# EAGLE library part MMDT2227-7-F (library MMDT2227-7-F)
Bipolar Transistors - BJT 40 / 60V 200mW COMPLEMENTARY NPN / PNP SMALL SIGNAL SURFACE MOUNT TRANSISTOR Source: Datasheet <https://www.diodes.com//assets/Datasheets/MMDT2227.pdf>
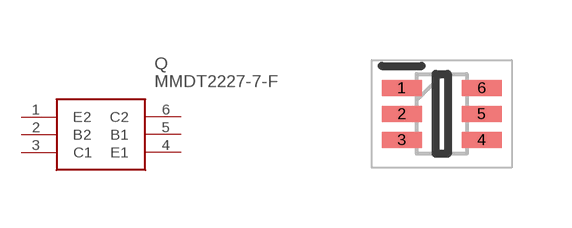
[diagram p0: symbol with the pads of SOT65P210X110-6N; footprint SOT65P210X110-6N]

Designator prefix Q

## MMDT2227-7-F (Description: Bipolar Transistors - BJT 40 / 60V 200mW COMPLEMENTARY NPN / PNP SMALL SIGNAL SURFACE MOUNT TRANSISTOR; Height: 1.1mm; Manufacturer_Name: Diodes Incorporated; Manufacturer_Part_Number: MMDT2227-7-F; Mouser_Part_Number: 621-MMDT2227-F; Mouser_Price-Stock: https://www.mouser.co.uk/ProductDetail/Diodes-Incorporated/MMDT2227-7-F?qs=YYngZPCCNnnEyw0APtcOXw%3D%3D)  [SOT65P210X110-6N]
1  E2
2  B2
3  C1
4  E1
5  B1
6  C2

## Footprint SOT65P210X110-6N (pad centres in mm)
MMDT2227-7-F-
smd 1 x 0.4: 1 -1,0.65; 2 -1,0; 3 -1,-0.65; 4 1,-0.65; 5 1,0; 6 1,0.65